# EAGLE library part ATOM10050030119 (library ohranyator)
SIM CARD HOLDER
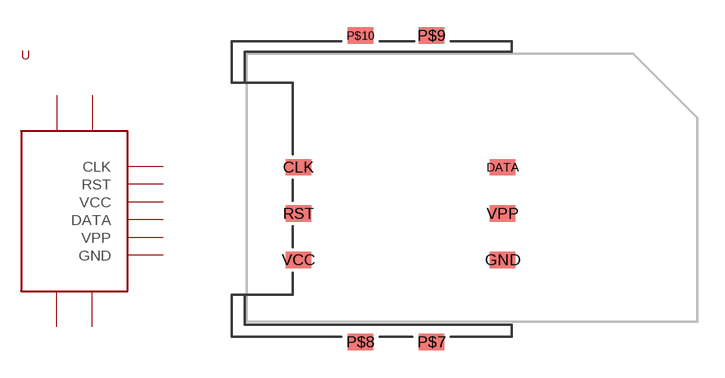
[diagram p4: symbol with the pads of ATOM10050030119; footprint ATOM10050030119]

Designator prefix -

## ATOM10050030119  [ATOM10050030119]
CLK  CLK
DATA  DATA
GND  GND
P$7  GND3
P$8  GND4
P$9  GND1
P$10  GND2
RST  RST
VCC  VCC
VPP  VPP

## Footprint ATOM10050030119 (pad centres in mm)
smd 1.4 x 0.9: CLK 3.64,-6.92; DATA 14.84,-6.92; GND 14.84,-12; P$7 10.94,-16.5; P$8 7.04,-16.5; P$9 10.94,0.3; P$10 7.04,0.3; RST 3.64,-9.46; VCC 3.64,-12; VPP 14.84,-9.46